# Altium schematic symbol library dorySchlib.SchLib: 18 symbols
Pins are listed as number, name and electrical type; pins without a type are passive.

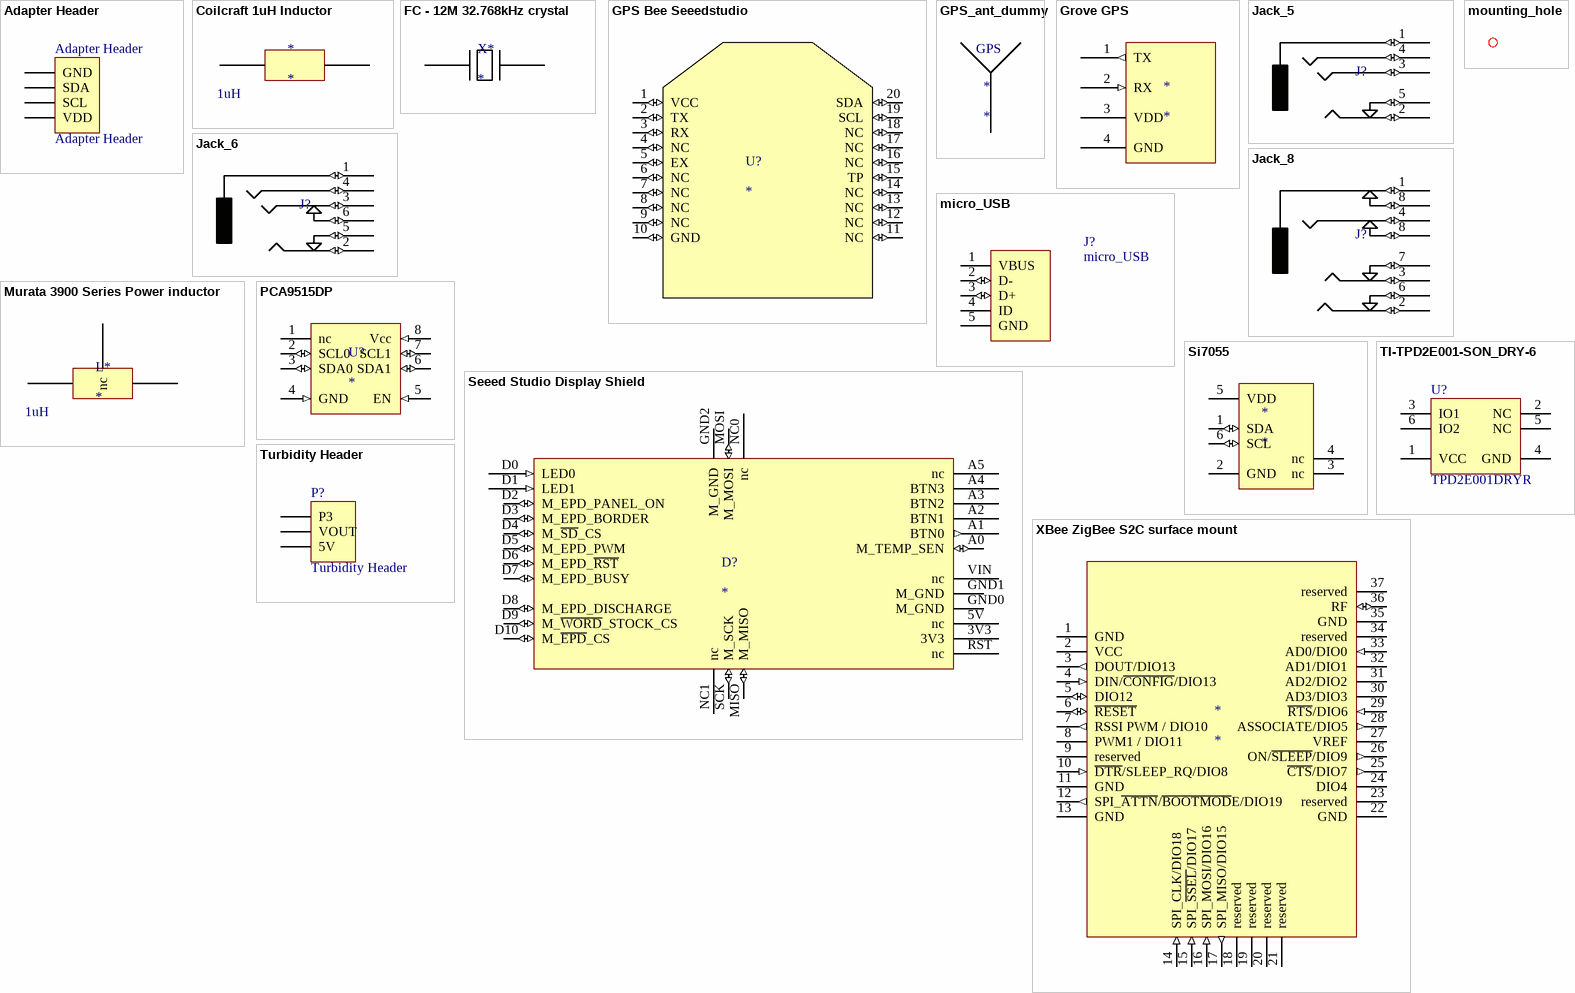
[diagram p0: symbols Adapter Header to XBee ZigBee S2C surface mount]

## Adapter Header
designator Adapter Header
Header, 4-Pin; LatestRevisionDate: 17-Jul-2002; LatestRevisionNote: Re-released for DXP Platform.; Publisher: Altium Limited
signal-integrity model Connector
footprint Adapter Header (Connector; Header; 4 Position)
pins: 1 GND, 2 SDA, 3 SCL, 4 VDD

## Coilcraft 1uH Inductor
designator *  Inductance: 1uH
footprint COILCRAFT XLF4020 INDUCTOR
pins: 1, 2

## FC - 12M 32.768kHz crystal
designator X*
Epson FC - 12M
footprint FC-12M (Epson kHz range crystal unit)
pins: 1, 2

## GPS Bee Seeedstudio
designator U?
footprint GPS bee
pins: 1 VCC (io), 2 TX (io), 3 RX (io), 4 NC (io), 5 EX (io), 6 NC (io), 7 NC (io), 8 NC (io), 9 NC (io), 10 GND (io), 11 NC (io), 12 NC (io), 13 NC (io), 14 NC (io), 15 TP (io), 16 NC (io), 17 NC (io), 18 NC (io), 19 SCL (io), 20 SDA (io)

## GPS_ant_dummy
designator *
footprint GPS_ant_dummy
text: GPS

## Grove GPS
designator *
footprint Grove GPS
pins: 1 TX (out), 2 RX (in), 3 VDD (power), 4 GND (power)

## Jack_5
designator J?  (value not drawn)
4 pin 5 contact headphone jack 3.5mm
footprint Jack_5_socket (jack with 5 connectors (model number PJ-325 on alibaba.com))
pins: 1 sleeve (io), 2 tip (io), 3 ring 1 (io), 4 ring 2 (io), 5 tip switch (io)

## Jack_6
designator J?  (value not drawn)
4 pin 6 contact headphone jack 3.5mm
footprint Jack_6_socket (jack with 8 connectors Seeed SKU 32004003 (ST-PJ-930A))
pins: 1 sleeve (io), 2 tip (io), 3 ring 1 (io), 4 ring 2 (io), 5 tip switch (io), 6 ring 1 switch (io)

## Jack_8
designator J?  (value not drawn)
4 pin 6 contact headphone jack 3.5mm
pins: 1 sleeve (io), 2 ring 1 (io), 3 tip (io), 4 ring 2 (io), 6 ring 1 switch (io), 7 tip switch (io), 8 ring 1 switch (io), 8 ring 1 switch (io)

## micro_USB
designator J?
waterproof USB 2.0 Standard Micro-USB Connector, Micro AB-Standard (Bottom Mount), 30 V AC, -30 to 85 degC, Right Angle, 5-Pin 7.5 x 5.6 x 2.8 mm SMD, RoHS,; PartNumber: ZX62D-AB-5P8; Manufacturer: Hirose Electric; Contact Resistance: 30 mOhm Max.; Packing: Reel; Number of Contacts: 5; Capacitance: 2 pF Max.; Voltage Rating: 30 V AC; Mounting Technology: Surface Mount; ComponentLink2Description: Datasheet; DatasheetVersion: Aug-14; RoHS: TRUE; ComponentLink2URL: http://www.hirose.co.jp/cataloge_hp/ed_ZX_20140804.pdf; Operating Temperature Range: -30 to 85 degC; PackageDescription: USB Micro-AB Connector, Right Angle, Body 7.5 x 5.6 mm, Pitch 0.65 mm, Height 2.8 mm; ComponentLink1URL: http://www.hirose.com/; ComponentLink1Description: Manufacturer URL; ComponentLink3URL: http://www.hirose.co.jp/cataloge_hp/ed_ZX_20140804.pdf; ComponentLink3Description: Package Specification
footprint DX4RNW5HJ3 (USB Micro-AB Connector, 5-Leads, Pitch 0.65mm)
pins: 1 VBUS (power), 2 D- (io), 3 D+ (io), 4 ID, 5 GND (power)

## mounting_hole
designator M?, comment mounting hole  (value not drawn)
footprint MOUNTING_HOLE

## Murata 3900 Series Power inductor
designator L*  Inductance: 1uH
footprint Murata 3900 series Inductor
pins: 1, 2, 3 nc

## PCA9515DP
designator U?
PCA9515 I2C logic level converter
footprint TSOP65P490X110-8N (TSOP, 8-Leads, Body 3.00x3.00mm, Pitch 0.65mm, IPC Medium Density)
pins: 1 nc, 2 SCL0 (io), 3 SDA0 (io), 4 GND (in), 5 EN (in), 6 SDA1 (io), 7 SCL1 (io), 8 Vcc (in)

## Seeed Studio Display Shield
designator D?
footprint Display shield
pins: 3V3 (power), 5V nc, A0 M_TEMP_SEN (io), A1 BTN0 (out), A2 BTN1, A3 BTN2, A4 BTN3, A5 nc, D0 LED0 (in), D1 LED1 (in), D2 M_EPD_PANEL_ON (io), D3 M_EPD_BORDER (io), D4 M_~{SD}_CS (io), D5 M_EPD_PWM (io), D6 M_EPD_~{RST} (io), D7 M_EPD_BUSY (io), D8 M_EPD_DISCHARGE (io), D9 M_~{WORD}_STOCK_CS (io), D10 M_~{EPD}_CS (io), GND0 M_GND (power), GND1 M_GND (power), GND2 M_GND (power), MISO M_MISO (io), MOSI M_MOSI (io), NC0 nc, NC1 nc, RST nc, SCK M_SCK (io), VIN nc

## Si7055
designator *
footprint Si7050/3/4/5 (I2C Temperature sensor SON, 6-Leads, Body 3.00x3.00mm, Pitch 1.00mm, Thermal Pad 2.40x1.50mm, IPC Medium Density)
pins: 1 SDA (io), 2 GND (power), 3 nc, 4 nc, 5 VDD (power), 6 SCL (io)

## TI-TPD2E001-SON_DRY-6
designator U?, comment TPD2E001DRYR
Low-Capacitance + / - 15 kV ESD-Protection Array for High-Speed Data Interfaces, 2 Channels, -40 to +85 degC, 6-pin SON (DRY), Green (RoHS & no Sb/Br); Manufacturer: Texas Instruments; SubFamily: ESD Solution; IEC 61000-4-2 Air-Gap(+/- kV): 15; IO Capacitance(Typ)(pF): 1.5; Breakdown Voltage(Min)(V): 11; IO Leakage Current(nA): 1; IEC 61000-4-2 Contact(+/- kV): 8; USB High Speed: TRUE; ComponentLink2URL: SamplesURL:http://www.ti.com/product/tpd2e001#samples; Mounting Technology: Surface Mount; ComponentLink1URL: http://www.ti.com/general/docs/lit/getliterature.tsp?genericPartNumber=TPD2E001&fileType=pdf; PackageVersion: revF, Dec-2011; PackageReference: DRY6; Eco-Plan: Green (RoHS & no Sb/Br); ComponentLink2Description: URL Link1; PartNumber: TPD2E001DRYR; DatasheetVersion: SLLS684F; PackageDescription: 6-Pin Plastic Small Outline No-Lead, 1 x 1.45 x 0.6 mm Body, 0.5 mm Pitch; ComponentLink1Description: Datasheet
footprint DRY6 (PSON, 6-Leads, Body 1x1.45mm, Pitch 0.5mm, TI Recommended)
pins: 1 VCC (power) "Power-supply input. Bypass VCC to GND with a 0.1-uF ceramic capacitor.", 2 NC "No connection. Not internally connected.", 3 IO1 "ESD-protected channel", 4 GND (power) "Ground", 5 NC "No connection. Not internally connected.", 6 IO2 "ESD-protected channel"

## Turbidity Header
designator P?
Header, 3-Pin; LatestRevisionDate: 17-Jul-2002; LatestRevisionNote: Re-released for DXP Platform.; Publisher: Altium Limited
signal-integrity model Connector
footprint TURBIDITY HEADER (Connector; Header; 3 Position)
pins: 1 P3, 2 VOUT, 3 5V

## XBee ZigBee S2C surface mount
designator *
footprint S2C XBEE
pins: 1 GND (power), 2 VCC (power), 3 DOUT/DIO13 (out), 4 DIN/~{CONFIG}/DIO13 (in), 5 DIO12 (io), 6 ~{RESET} (io), 7 RSSI PWM / DIO10 (out), 8 PWM1 / DIO11, 9 reserved, 10 ~{DTR}/SLEEP_RQ/DIO8 (in), 11 GND (power), 12 SPI_~{ATTN}/~{BOOTMOD}E/DIO19 (out), 13 GND (power), 14 SPI_CLK/DIO18 (in), 15 SPI_~{SSEL}/DIO17 (in), 16 SPI_MOSI/DIO16 (in), 17 SPI_MISO/DIO15 (out), 18 reserved, 19 reserved, 20 reserved, 21 reserved, 22 GND (power), 23 reserved, 24 DIO4, 25 ~{CTS}/DIO7 (out), 26 ON/~{SLEEP}/DIO9 (out), 27 VREF (power), 28 ASSOCIATE/DIO5 (out), 29 ~{RTS}/DIO6 (in), 30 AD3/DIO3, 31 AD2/DIO2, 32 AD1/DIO1, 33 AD0/DIO0 (in), 34 reserved, 35 GND (power), 36 RF (io), 37 reserved